# Altium integrated library ECA1VM221.IntLib: 1 symbol
Pins are listed as number, name and electrical type; pins without a type are passive.

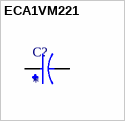
[diagram p0: symbol ECA1VM221]

## ECA1VM221
designator C?
220F 35V Aluminum Electrolytic Capacitors Radial, Can 2000 Hrs @ 85C; MP: ECA-1VM221; MF: Panasonic; Price: None; Availability: In Stock; Purchase-URL: https://pricing.snapeda.com/search/part/ECA-1VM221/?ref=eda; Check_prices: https://www.snapeda.com/parts/ECA-1VM221/Panasonic/view-part/358108/?ref=eda; Value: *; SnapEDA_Link: https://www.snapeda.com/parts/ECA-1VM221/Panasonic/view-part/358108/?ref=snap; Package: RADIAL-2 Panasonic
footprint CAPPRD350W60D800H1150
pins: N, P